# EAGLE library part CON_EDGE44 (library Traficon)
US card edge connector Wire wrap connector Farnell 145-148 RS-online 483-871 If you still can get the BLUE connector: use the BLUE variant. The BLACK version has wider pins, which makes it unusable on a print for 230Vac. So if you need 110Vac or 230Vac signals on this connector, you MUST use the BLUE variant.
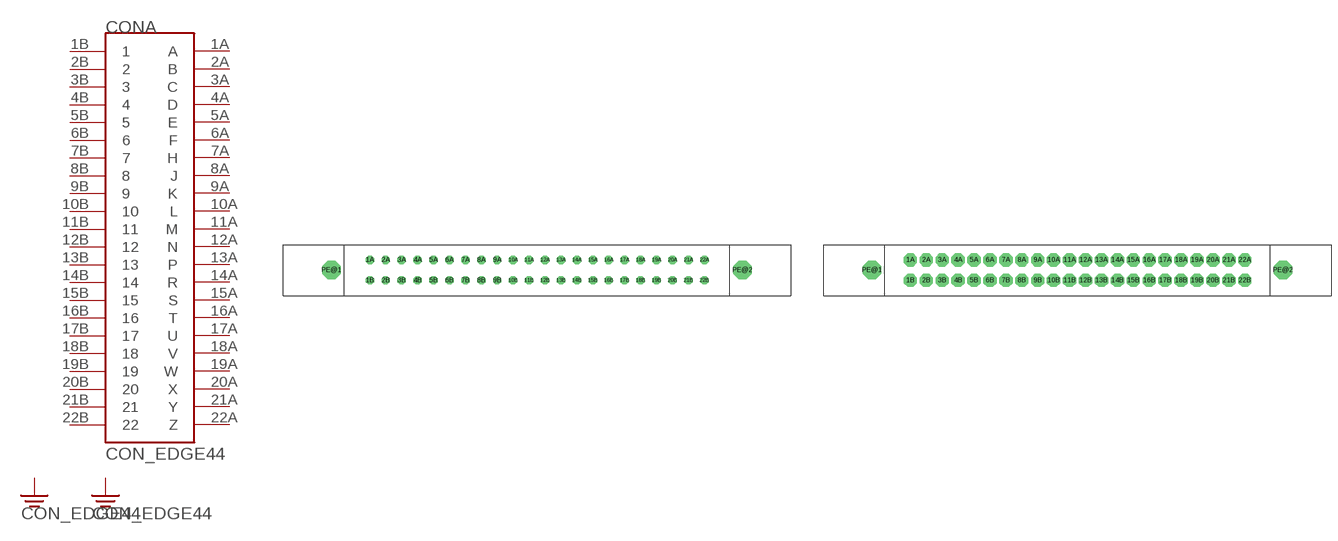
[diagram p67: symbol with the pads of CON_EDGE44; footprints CON_EDGE44, CON_EDGE44_WIREWRAP]

Designator prefix CON; gates A=CARD_EDGE_44P G$2=PE G$3=PE

## CON_EDGE44-BLUE  [CON_EDGE44]
1A  A:A
1B  A:1
2A  A:B
2B  A:2
3A  A:C
3B  A:3
4A  A:D
4B  A:4
5A  A:E
5B  A:5
6A  A:F
6B  A:6
7A  A:H
7B  A:7
8A  A:J
8B  A:8
9A  A:K
9B  A:9
10A  A:L
10B  A:10
11A  A:M
11B  A:11
12A  A:N
12B  A:12
13A  A:P
13B  A:13
14A  A:R
14B  A:14
15A  A:S
15B  A:15
16A  A:T
16B  A:16
17A  A:U
17B  A:17
18A  A:V
18B  A:18
19A  A:W
19B  A:19
20A  A:X
20B  A:20
21A  A:Y
21B  A:21
22A  A:Z
22B  A:22
PE@1  G$2:PE  sup
PE@2  G$3:PE  sup

## CON_EDGE44-BLACK  [CON_EDGE44_WIREWRAP]
Pads as for CON_EDGE44

## CON_EDGE44-90°  [CON_EDGE44_90°]
1  A:1
2  A:2
3  A:3
4  A:4
5  A:5
6  A:6
7  A:7
8  A:8
9  A:9
10  A:10
11  A:11
12  A:12
13  A:13
14  A:14
15  A:15
16  A:16
17  A:17
18  A:18
19  A:19
20  A:20
21  A:21
22  A:22
A  A:A
B  A:B
C  A:C
D  A:D
E  A:E
F  A:F
H  A:H
J  A:J
K  A:K
L  A:L
M  A:M
N  A:N
P  A:P
PE@1  G$2:PE  sup
PE@2  G$3:PE  sup
R  A:R
S  A:S
T  A:T
U  A:U
V  A:V
W  A:W
X  A:X
Y  A:Y
Z  A:Z

## Footprint CON_EDGE44 (pad centres in mm)
drill 1.4 octagon: 1A -41.91,2.54; 1B -41.91,-2.54; 2A -37.948,2.54; 2B -37.948,-2.54; 3A -33.985,2.54; 3B -33.985,-2.54; 4A -30.023,2.54; 4B -30.023,-2.54; 5A -26.06,2.54; 5B -26.06,-2.54; 6A -22.098,2.54; 6B -22.098,-2.54; 7A -18.136,2.54; 7B -18.136,-2.54; 8A -14.173,2.54; 8B -14.173,-2.54; 9A -10.211,2.54; 9B -10.211,-2.54; 10A -6.248,2.54; 10B -6.248,-2.54; 11A -2.286,2.54; 11B -2.286,-2.54; 12A 1.676,2.54; 12B 1.676,-2.54; 13A 5.639,2.54; 13B 5.639,-2.54; 14A 9.601,2.54; 14B 9.601,-2.54; 15A 13.564,2.54; 15B 13.564,-2.54; 16A 17.526,2.54; 16B 17.526,-2.54; 17A 21.488,2.54; 17B 21.488,-2.54; 18A 25.451,2.54; 18B 25.451,-2.54; 19A 29.413,2.54; 19B 29.413,-2.54; 20A 33.376,2.54; 20B 33.376,-2.54; 21A 37.338,2.54; 21B 37.338,-2.54; 22A 41.3,2.54; 22B 41.3,-2.54
drill 3.556 octagon: PE@1 -51.435,0; PE@2 50.8,0

## Footprint CON_EDGE44_WIREWRAP (pad centres in mm)
drill 2.3 octagon: 1A -41.91,2.54; 1B -41.91,-2.54; 2A -37.948,2.54; 2B -37.948,-2.54; 3A -33.985,2.54; 3B -33.985,-2.54; 4A -30.023,2.54; 4B -30.023,-2.54; 5A -26.06,2.54; 5B -26.06,-2.54; 6A -22.098,2.54; 6B -22.098,-2.54; 7A -18.136,2.54; 7B -18.136,-2.54; 8A -14.173,2.54; 8B -14.173,-2.54; 9A -10.211,2.54; 9B -10.211,-2.54; 10A -6.248,2.54; 10B -6.248,-2.54; 11A -2.286,2.54; 11B -2.286,-2.54; 12A 1.676,2.54; 12B 1.676,-2.54; 13A 5.639,2.54; 13B 5.639,-2.54; 14A 9.601,2.54; 14B 9.601,-2.54; 15A 13.564,2.54; 15B 13.564,-2.54; 16A 17.526,2.54; 16B 17.526,-2.54; 17A 21.488,2.54; 17B 21.488,-2.54; 18A 25.451,2.54; 18B 25.451,-2.54; 19A 29.413,2.54; 19B 29.413,-2.54; 20A 33.376,2.54; 20B 33.376,-2.54; 21A 37.338,2.54; 21B 37.338,-2.54; 22A 41.3,2.54; 22B 41.3,-2.54
drill 3.556 octagon: PE@1 -51.435,0; PE@2 50.8,0

## Footprint CON_EDGE44_90° (pad centres in mm)
drill 1.4 octagon: 1 41.3,2.54; 2 37.338,2.54; 3 33.376,2.54; 4 29.413,2.54; 5 25.451,2.54; 6 21.488,2.54; 7 17.526,2.54; 8 13.564,2.54; 9 9.601,2.54; 10 5.639,2.54; 11 1.676,2.54; 12 -2.286,2.54; 13 -6.248,2.54; 14 -10.211,2.54; 15 -14.173,2.54; 16 -18.136,2.54; 17 -22.098,2.54; 18 -26.06,2.54; 19 -30.023,2.54; 20 -33.985,2.54; 21 -37.948,2.54; 22 -41.91,2.54; A 41.3,-2.54; B 37.338,-2.54; C 33.376,-2.54; D 29.413,-2.54; E 25.451,-2.54; F 21.488,-2.54; H 17.526,-2.54; J 13.564,-2.54; K 9.601,-2.54; L 5.639,-2.54; M 1.676,-2.54; N -2.286,-2.54; P -6.248,-2.54; R -10.211,-2.54; S -14.173,-2.54; T -18.136,-2.54; U -22.098,-2.54; V -26.06,-2.54; W -30.023,-2.54; X -33.985,-2.54; Y -37.948,-2.54; Z -41.91,-2.54
drill 2.5 octagon: PE@1 -51.435,-7.62; PE@2 50.8,-7.62